# Altium integrated library pca63557.IntLib: 53 symbols
Pins are listed as number, name and electrical type; pins without a type are passive.

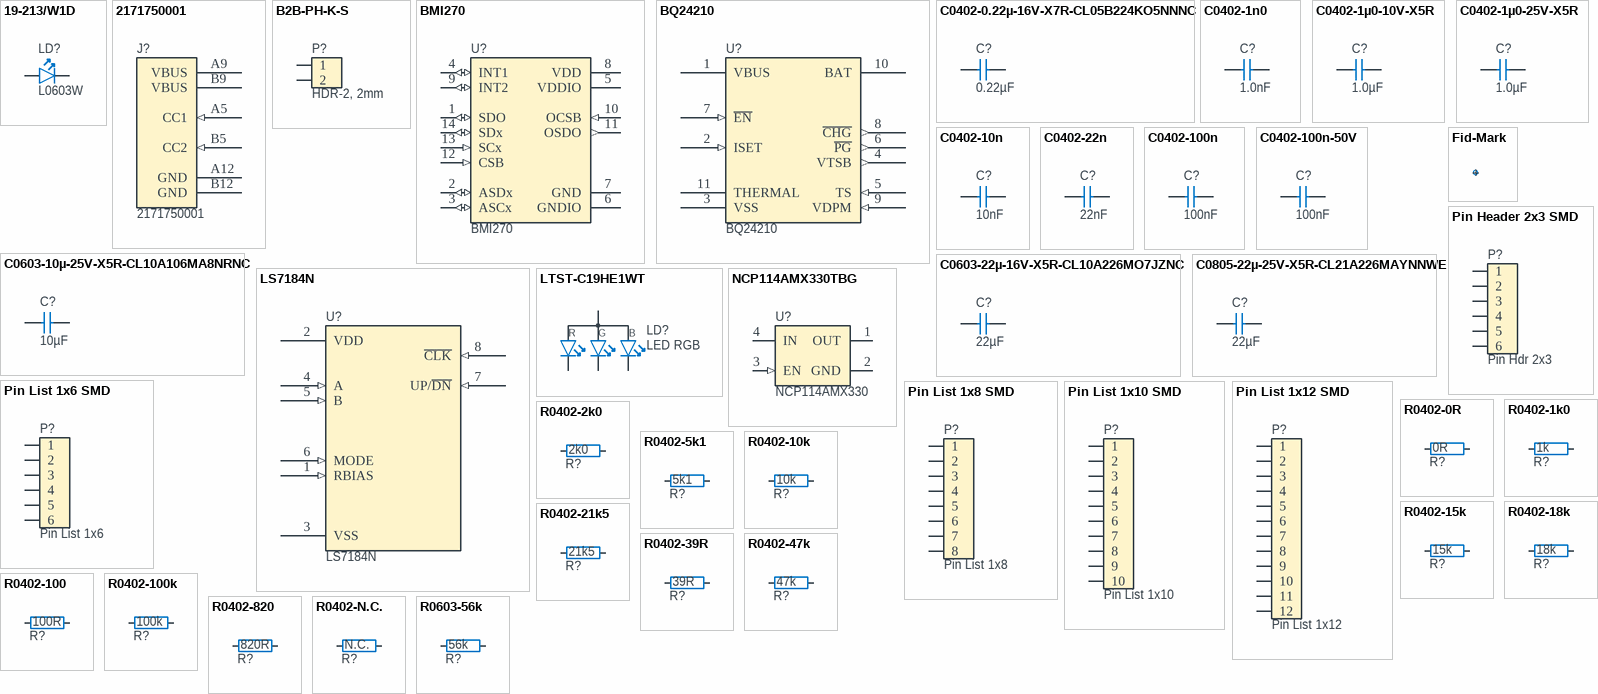
[diagram p0: symbols 19-213/W1D to R0603-56k]

## 19-213/W1D
designator LD?, comment L0603W
LED 0603, 19-213/W1D; Manufacturer: Everlight; Manufacturer Part Number: N.A.; Part number NEMS: 101400001; Component Status: Active; Pad Count: 2; Note: 45 mcd; Part Number: 19-213/W1D; PartId: 101400001; Component Class: Optoelectronics; Author: rsk; ComponentLink1URL: N.A.; ComponentLink1Description: Datasheet; ComponentLink2URL: N.A.; ComponentLink2Description: Supplier link; HelpURL: N.A.; Footprint Doc: 0603; LatestRevisionDate: 2009-05-18; Published: 2009-05-18; Value: L0603W; Supplier 1: N.A.; Supplier Part Number 1: N.A.; Supplier 2: N.A.; Supplier Part Number 2: N.A.; Artikkelnr Noca: N.A.; Part number IPS: N.A.; Part number Norautron: N.A.
footprint LED_0603
pins: 1 C, 2 A

## 2171750001
designator J?
CONN RCP USB2.0 C 6POS SMD RA; Manufacturer: Molex; Part number NEMS: 100500750; Component Status: Active; Pad Count: 10; Note: N.A.; Supplier 1: Digi-Key; Manufacturer Part Number: 2171750001; RoHS: No; Category: Connectors; Stock 1: 6900; Pricing 1: 1000=0.50970, 2000=0.45860, 5000=0.41720, 10000=0.40300, 25000=0.38470 (USD); Part Number: 2171750001; PartId: 100500750; Component Class: Connectors; Author: mam1; ComponentLink1URL: https://www.molex.com/webdocs/datasheets/pdf/en-us/2171750001_IO_CONNECTORS.pdf; ComponentLink1Description: Datasheet; ComponentLink2URL: https://www.digikey.no/no/products/detail/molex/2171750001/13913745?s=N4IgTCBcDa4IwHZEFYAM64gLoF8g; ComponentLink2Description: Supplier link; HelpURL: N.A.; Footprint Doc: 2171750001; LatestRevisionDate: 2022-06-20; Published: 2022-06-15; Value: 2171750001; Supplier Part Number 1: 900-2171750001CT-ND; Supplier 2: N.A.; Supplier Part Number 2: N.A.; Artikkelnr Noca: N.A.; Part number IPS: N.A.; Part number Norautron: N.A.
footprint USB-C
footprint 2171750001
pins: A5 CC1 (in), A9 VBUS (power), A12 GND (power), B5 CC2 (in), B9 VBUS (power), B12 GND (power)

## B2B-PH-K-S
designator P?, comment HDR-2, 2mm
JST-B2B-PH-K-S (LF)(SN)-HEADER-BIDE ENTRY, 2WAY; Manufacturer: JST Sales America Inc.; Part number NEMS: 100500025; Component Status: Active; Pad Count: 2; Note: JST, Header; Artikkelnr Noca: N.A.; Assembly: DNM; Part Number: B2B-PH-K-S; PartId: 100500025; Component Class: Connectors; Author: rsk; Manufacturer Part Number: B2B-PH-K-S (LF)(SN); ComponentLink1URL: N.A.; ComponentLink1Description: Datasheet; ComponentLink2URL: N.A.; ComponentLink2Description: Supplier link; HelpURL: http://www.farnell.com/datasheets/80560.pdf; Footprint Doc: B 2B-PH-K-S; LatestRevisionDate: 2010-02-02; Published: 2010-02-02; Value: HDR-2, 2mm; Supplier 1: Farnell; Supplier Part Number 1: 949-1856; Supplier 2: N.A.; Supplier Part Number 2: N.A.; Part number IPS: N.A.; Part number Norautron: N.A.
footprint B 2B-PH-K-S
pins: 1, 2

## BMI270
designator U?
6-axis, smart, low-power, inertial measurement unit; Manufacturer: Bosch; Part number NEMS: 101900620; Component Status: Active; Pad Count: 14; Note: N.A.; Part Number: BMI270; PartId: 101900620; Component Class: Misc_ICs; Author: rsk; Manufacturer Part Number: BMI270; ComponentLink1URL: https://www.bosch-sensortec.com/media/boschsensortec/downloads/datasheets/bst-bmi270-ds000.pdf; ComponentLink1Description: Datasheet; ComponentLink2URL: https://www.bosch-sensortec.com/products/motion-sensors/imus/bmi270.html; ComponentLink2Description: Supplier link; HelpURL: https://www.bosch-sensortec.com/media/boschsensortec/downloads/datasheets/bst-bmi270-ds000.pdf; Footprint Doc: LGA-14; LatestRevisionDate: 2021-08-03; Published: 2020-07-07; Value: BMI270; Supplier 1: Digi-Key; Supplier Part Number 1: 828-1091-1-ND; Supplier 2: Mouser; Supplier Part Number 2: 262-BMI270; Artikkelnr Noca: N.A.; Part number IPS: N.A.; Part number Norautron: N.A.
footprint BMI270
pins: 1 SDO (io), 2 ASDx (io), 3 ASCx (io), 4 INT1 (io), 5 VDDIO (power), 6 GNDIO (power), 7 GND (power), 8 VDD (power), 9 INT2 (io), 10 OCSB (in), 11 OSDO (out), 12 CSB (in), 13 SCx (in), 14 SDx (io)

## BQ24210
designator U?
IC BATT CHG LI-ION 1CELL 10WSON; Manufacturer: Texas Instruments; Component Status: Active; Pad Count: 11; Note: N.A.; Part Number: BQ24210; Component Class: Misc_ICs; Author: mam1; Manufacturer Part Number: BQ24210; ComponentLink1URL: https://www.ti.com/lit/ds/symlink/bq24210.pdf?HQS=dis-dk-null-digikeymode-dsf-pf-null-wwe&ts=1655977670459&ref_url=https%253A%252F%252Fwww.ti.com%252Fgeneral%252Fdocs%252Fsuppproductinfo.tsp%253FdistId%253D10%2526gotoUrl%253Dhttps%253A%252F%252Fwww.ti.com; ComponentLink1Description: Datasheet; ComponentLink2URL: https://www.digikey.no/no/products/detail/texas-instruments/BQ24210DQCR/2695894; ComponentLink2Description: Supplier link; HelpURL: N.A.; Footprint Doc: BQ24210; LatestRevisionDate: 2022-06-23; Published: 2022-06-21; Value: BQ24210; Supplier 1: Digi-Key; Supplier Part Number 1: 296-BQ24210DQCRCT-ND; Supplier 2: N.A.; Supplier Part Number 2: N.A.; Artikkelnr Noca: N.A.; Part number IPS: N.A.; Part number Norautron: N.A.
footprint BQ24210
pins: 1 VBUS (power), 2 ISET (in), 3 VSS (power), 4 VTSB (out), 5 TS (in), 6 ~{PG} (out), 7 ~{EN} (in), 8 ~{CHG} (out), 9 VDPM (in), 10 BAT (power), 11 THERMAL

## C0402-0.22µ-16V-X7R-CL05B224KO5NNNC
designator C?, comment 0.22µF
Capacitor, X7R, ±0.10%, 16V; Part Number: C0402-0.22µ-16V-X7R-CL05B224KO5NNNC; Manufacturer: Samsung Electro-Mechanics; Manufacturer Part Number: CL05B224KO5NNNC; Part number NEMS: 100200508; Component Status: Active; Pad Count: 2; Artikkelnr Noca: N.A.; Component Class: Capacitors; Author: mam1; ComponentLink1URL: https://media.digikey.com/pdf/Data%20Sheets/Samsung%20PDFs/CL05B224KO5NNNC_Spec.pdf; ComponentLink1Description: Datasheet; ComponentLink2URL: https://www.digikey.no/en/products/detail/samsung-electro-mechanics/CL05B224KO5NNNC/3886834; ComponentLink2Description: Supplier link; HelpURL: N.A.; Footprint Doc: 0402; LatestRevisionDate: 2022-06-20; Published: 2022-06-20; Value: 0.22µF; Note: 16V; Supplier 1: Digi-Key; Supplier Part Number 1: 1276-1176-1-ND; Supplier 2: N.A.; Supplier Part Number 2: N.A.; Part number IPS: N.A.; Part number Norautron: N.A.; PartId: 100200508
footprint CAPC1005X04L
pins: 1, 2

## C0402-1n0
designator C?, comment 1.0nF
Capacitor, X7R, ±10%; Part Number: C0402-1n0; Manufacturer: N.A.; Part number NEMS: 100200162; Component Status: Active; Pad Count: 2; Note: 50V; Artikkelnr Noca: 20039223; PartId: 100200162; Component Class: Capacitors; Author: rsk; Manufacturer Part Number: N.A.; ComponentLink1URL: N.A.; ComponentLink1Description: Datasheet; ComponentLink2URL: N.A.; ComponentLink2Description: Supplier link; HelpURL: N.A.; Footprint Doc: 0402; LatestRevisionDate: 2009-11-23; Published: 2009-05-08; Value: 1.0nF; Supplier 1: N.A.; Supplier Part Number 1: N.A.; Supplier 2: N.A.; Supplier Part Number 2: N.A.; Part number IPS: N.A.; Part number Norautron: N.A.
footprint CAPC1005X04L
pins: 1, 2

## C0402-1µ0-10V-X5R
designator C?, comment 1.0µF
Capacitor, Ceramic, X5R, ±10%, 10V; Part Number: C0402-1µ0-10V-X5R; Manufacturer: N.A.; Part number NEMS: 100200482; Component Status: Active; Pad Count: 2; PartId: 100200482; Component Class: Capacitors; Author: rubr; Manufacturer Part Number: N.A.; ComponentLink1URL: N.A.; ComponentLink1Description: Datasheet; ComponentLink2URL: N.A.; ComponentLink2Description: Supplier link; HelpURL: N.A.; Footprint Doc: 0402; LatestRevisionDate: 2021-07-22; Published: 2021-07-22; Value: 1.0µF; Note: 10V; Supplier 1: N.A.; Supplier Part Number 1: N.A.; Supplier 2: N.A.; Supplier Part Number 2: N.A.; Artikkelnr Noca: N.A.; Part number IPS: N.A.; Part number Norautron: N.A.
footprint CAPC1005X04L
pins: 1, 2

## C0402-1µ0-25V-X5R
designator C?, comment 1.0µF
Capacitor, Ceramic, X5R, ±10%, 25V; Part Number: C0402-1µ0-25V-X5R; Manufacturer: Murata; Manufacturer Part Number: GRM155R61E105KA12D; Part number NEMS: 100200453; Component Status: Active; Pad Count: 2; Artikkelnr Noca: N.A.; PartId: 100200453; Component Class: Capacitors; Author: rsk; ComponentLink1URL: https://search.murata.co.jp/Ceramy/image/img/A01X/G101/ENG/GRM155R61E105KA12-01.pdf; ComponentLink1Description: Datasheet; ComponentLink2URL: https://www.murata.com/en-global/products/productdetail?partno=GRM155R61E105KA12%23; ComponentLink2Description: Supplier link; HelpURL: N.A.; Footprint Doc: 0402; LatestRevisionDate: 2020-12-16; Published: 2020-12-16; Value: 1.0µF; Note: 25V; Supplier 1: Digi-Key; Supplier Part Number 1: 490-10017-1-ND; Supplier 2: Mouser; Supplier Part Number 2: 81-GRM155R61E105KA2D; Part number IPS: N.A.; Part number Norautron: N.A.
footprint CAPC1005X04L
pins: 1, 2

## C0402-10n
designator C?, comment 10nF
Capacitor, X7R, ±10%; Part Number: C0402-10n; Manufacturer: N.A.; Part number IPS: 00000007784; Part number NEMS: 100200173; Component Status: Active; Pad Count: 2; Note: 16V; Artikkelnr Noca: 20039166; PartId: 100200173; Component Class: Capacitors; Author: rsk; Manufacturer Part Number: N.A.; ComponentLink1URL: N.A.; ComponentLink1Description: Datasheet; ComponentLink2URL: N.A.; ComponentLink2Description: Supplier link; HelpURL: N.A.; Footprint Doc: 0402; LatestRevisionDate: 2009-11-23; Published: 2009-05-08; Value: 10nF; Supplier 1: N.A.; Supplier Part Number 1: N.A.; Supplier 2: N.A.; Supplier Part Number 2: N.A.; Part number Norautron: N.A.
footprint CAPC1005X04L
pins: 1, 2

## C0402-22n
designator C?, comment 22nF
Capacitor, X7R, ±10%; Part Number: C0402-22n; Manufacturer: N.A.; Part number NEMS: 100200177; Component Status: Active; Pad Count: 2; Note: 50V; Artikkelnr Noca: 20039316; PartId: 100200177; Component Class: Capacitors; Author: rsk; Manufacturer Part Number: N.A.; ComponentLink1URL: N.A.; ComponentLink1Description: Datasheet; ComponentLink2URL: N.A.; ComponentLink2Description: Supplier link; HelpURL: N.A.; Footprint Doc: 0402; LatestRevisionDate: 2009-05-08; Published: 2009-05-08; Value: 22nF; Supplier 1: N.A.; Supplier Part Number 1: N.A.; Supplier 2: N.A.; Supplier Part Number 2: N.A.; Part number IPS: N.A.; Part number Norautron: N.A.
footprint CAPC1005X04L
pins: 1, 2

## C0402-100n
designator C?, comment 100nF
Capacitor, X7R, ±10%; Part Number: C0402-100n; Manufacturer: N.A.; Part number IPS: 00000005296; Part number NEMS: 100200184; Component Status: Active; Pad Count: 2; Note: 16V; Artikkelnr Noca: 20039200; PartId: 100200184; Component Class: Capacitors; Author: rsk; Manufacturer Part Number: N.A.; ComponentLink1URL: N.A.; ComponentLink1Description: Datasheet; ComponentLink2URL: N.A.; ComponentLink2Description: Supplier link; HelpURL: N.A.; Footprint Doc: 0402; LatestRevisionDate: 2009-11-23; Published: 2009-05-08; Value: 100nF; Supplier 1: N.A.; Supplier Part Number 1: N.A.; Supplier 2: N.A.; Supplier Part Number 2: N.A.; Part number Norautron: N.A.
footprint CAPC1005X04L
pins: 1, 2

## C0402-100n-50V
designator C?, comment 100nF
Capacitor, X5R, ±10%, 50V; Part Number: C0402-100n-50V; Manufacturer: TDK Corporation; Manufacturer Part Number: C1005X5R1H104K050BB; Part number NEMS: 100200365; Component Status: Active; Pad Count: 2; Artikkelnr Noca: N.A.; PartId: 100200365; Component Class: Capacitors; Author: rsk; ComponentLink1URL: N.A.; ComponentLink1Description: Datasheet; ComponentLink2URL: N.A.; ComponentLink2Description: Supplier link; HelpURL: http://www.tdk.com/pdf/TDKMLCCCapRange.pdf; Footprint Doc: 0402; LatestRevisionDate: 2020-10-13; Published: 2015-04-10; Value: 100nF; Note: 50V; Supplier 1: Digi-Key; Supplier Part Number 1: 445-5942-1-ND; Supplier 2: N.A.; Supplier Part Number 2: N.A.; Part number IPS: N.A.; Part number Norautron: N.A.
footprint CAPC1005X04L
pins: 1, 2

## C0603-10µ-25V-X5R-CL10A106MA8NRNC
designator C?, comment 10µF
Capacitor, X5R, ±20%, 25V; Part Number: C0603-10µ-25V-X5R-CL10A106MA8NRNC; Manufacturer: Samsung Electro-Mechanics America; Manufacturer Part Number: CL10A106MA8NRNC; Part number IPS: 00000009948; Part number Norautron: N.A.; Part number NEMS: 100200354; Component Status: Active; Pad Count: 2; Artikkelnr Noca: 20039436; PartId: 100200354; Component Class: Capacitors; Author: rsk; ComponentLink1URL: N.A.; ComponentLink1Description: Datasheet; ComponentLink2URL: N.A.; ComponentLink2Description: Supplier link; HelpURL: http://www.samsungsem.com/kr/front/downloadcms.do?path=/kr/support/product-search/mlcc/__icsFiles/afieldfile/2014/11/05&fileName=S_CL10A106MA8NRNC.pdf; Footprint Doc: 0603; LatestRevisionDate: 2021-07-21; Published: 2015-04-10; Value: 10µF; Note: 25V; Supplier 1: Digi-Key; Supplier Part Number 1: 1276-1869-1-ND; Supplier 2: N.A.; Supplier Part Number 2: N.A.
footprint CAPC1608X06L
pins: 1, 2

## C0603-22µ-16V-X5R-CL10A226MO7JZNC
designator C?, comment 22µF
Capacitor, X5R, ±0.20%, 16V; Part Number: C0603-22µ-16V-X5R-CL10A226MO7JZNC; Manufacturer: Samsung Electro-Mechanics; Manufacturer Part Number: CL10A226MO7JZNC; Part number NEMS: 100200507; Component Status: Active; Pad Count: 2; Artikkelnr Noca: N.A.; Component Class: Capacitors; Author: mam1; ComponentLink1URL: https://media.digikey.com/pdf/Data%20Sheets/Samsung%20PDFs/CL10A226MO7JZNC_Spec.pdf; ComponentLink1Description: Datasheet; ComponentLink2URL: https://www.digikey.no/en/products/detail/samsung-electro-mechanics/CL10A226MO7JZNC/7320581; ComponentLink2Description: Supplier link; HelpURL: N.A.; Footprint Doc: 0603; LatestRevisionDate: 2022-06-20; Published: 2022-06-20; Value: 22µF; Note: 16V; Supplier 1: Digi-Key; Supplier Part Number 1: 1276-7076-1-ND; Supplier 2: N.A.; Supplier Part Number 2: N.A.; Part number IPS: N.A.; Part number Norautron: N.A.; PartId: 100200507
footprint CAPC1608X06L
pins: 1, 2

## C0805-22µ-25V-X5R-CL21A226MAYNNWE
designator C?, comment 22µF
Capacitor, X5R, ±0.20%, 25V; Part Number: C0805-22µ-25V-X5R-CL21A226MAYNNWE; Manufacturer: Samsung Electro-Mechanics; Manufacturer Part Number: CL21A226MAYNNWE; Component Status: Active; Pad Count: 2; Artikkelnr Noca: N.A.; Component Class: Capacitors; Author: mam1; ComponentLink1URL: https://media.digikey.com/pdf/Data%20Sheets/Samsung%20PDFs/CL21A226MAYNNWE_Spec.pdfc; ComponentLink1Description: Datasheet; ComponentLink2URL: https://www.digikey.no/no/products/detail/samsung-electro-mechanics/CL21A226MAYNNWE/16344162; ComponentLink2Description: Supplier link; HelpURL: N.A.; Footprint Doc: 0805; LatestRevisionDate: 2022-06-23; Published: 2022-06-23; Value: 22µF; Note: 25V; Supplier 1: Digi-Key; Supplier Part Number 1: 1276-CL21A226MAYNNWECT-ND; Supplier 2: N.A.; Supplier Part Number 2: N.A.; Part number IPS: N.A.; Part number Norautron: N.A.
footprint CAPC2012X11L
pins: 1, 2

## Fid-Mark
designator Fid?, comment Fiducial mark  (value not drawn)
Part Number: Fid-Mark; Manufacturer: N.A.; Part number NEMS: 100500073; Value: N.A.; Pad Count: 1; Component Status: Active; Manufacturer Part Number: N.A.; LatestRevisionDate: 2009-12-12; Published: 2009-12-12; Note: N.A.; Artikkelnr Noca: N.A.; Footprint Doc: Fiducial; PartId: 100500073; Component Class: Connectors; Author: rsk; ComponentLink1URL: N.A.; ComponentLink1Description: Datasheet; ComponentLink2URL: N.A.; ComponentLink2Description: Supplier link; HelpURL: N.A.; Supplier 1: N.A.; Supplier Part Number 1: N.A.; Supplier 2: N.A.; Supplier Part Number 2: N.A.; Part number IPS: N.A.; Part number Norautron: N.A.
footprint Fiducial

## LS7184N
designator U?
QUADRATURE CLOCK CONVERTER; Manufacturer: LSI/CSI; Manufacturer Part Number: LS7184N-S; Component Status: Active; Note: N.A.; Pad Count: 8; Part Number: LS7184N; Component Class: Misc_ICs; Author: mam1; ComponentLink1URL: https://lsicsi.com/datasheets/LS7183N_LS7184N.pdf; ComponentLink1Description: Datasheet; ComponentLink2URL: https://www.digikey.no/en/products/detail/lsi-csi/LS7184N-S/12760890; ComponentLink2Description: Supplier link; HelpURL: N.A.; LatestRevisionDate: 2022-06-21; Published: 2022-06-21; Value: LS7184N; Supplier 1: Digi-Key; Supplier Part Number 1: 2808-LS7184N-S-ND; Supplier 2: N.A.; Supplier Part Number 2: N.A.; Artikkelnr Noca: N.A.; Part number IPS: N.A.; Part number Norautron: N.A.; Footprint Doc: LS7184N
footprint LS7184N
pins: 1 RBIAS (in), 2 VDD (power), 3 VSS (power), 4 A (in), 5 B (in), 6 MODE (in), 7 UP/~{DN} (in), 8 ~{CLK} (in)

## LTST-C19HE1WT
designator LD?, comment LED RGB
RGB LED 1.60 mm x 1.60 mm SMD; Part Number: LTST-C19HE1WT; Manufacturer: Lite-On Inc; Part number IPS: 00000007798; Part number NEMS: 101400093; Component Status: Active; Pad Count: 4; Note: N.A.; PartId: 101400093; Component Class: Optoelectronics; Author: rsk; Manufacturer Part Number: LTST-C19HE1WT; ComponentLink1URL: N.A.; ComponentLink1Description: Datasheet; ComponentLink2URL: N.A.; ComponentLink2Description: Supplier link; HelpURL: http://optoelectronics.liteon.com/upload/download/DS22-2008-0044/S_110_LTST-C19HE1WT.pdf; Footprint Doc: LED_RGB_0606; LatestRevisionDate: 2016-09-23; Published: 2016-09-23; Value: LED RGB; Supplier 1: Digi-Key; Supplier Part Number 1: 160-2162-1-ND; Supplier 2: Mouser; Supplier Part Number 2: 859-LTST-C19HE1WT; Artikkelnr Noca: N.A.; Part number Norautron: N.A.
footprint LED_RGB_0606
pins: 1 C_RED, 2 C_GREEN, 3 C_BLUE, 4 A
text: R; G; B

## NCP114AMX330TBG
designator U?, comment NCP114AMX330
300 mA CMOS Low Dropout Regulator; Part Number: NCP114AMX330TBG; Manufacturer: ON Semiconductor; Part number NEMS: 101900525; Component Status: Active; Pad Count: 4; Note: N.A.; PartId: 101900525; Component Class: Misc_ICs; Author: rsk; Manufacturer Part Number: NCP114AMX330TBG; ComponentLink1URL: http://www.onsemi.com/pub/Collateral/NCP114-D.PDF; ComponentLink1Description: Datasheet; ComponentLink2URL: N.A.; ComponentLink2Description: Supplier link; HelpURL: N.A.; Footprint Doc: UDFN-4; LatestRevisionDate: 2018-04-10; Published: 2018-04-10; Value: NCP114AMX330; Supplier 1: Digi-Key; Supplier Part Number 1: NCP114AMX330TBGOSCT-ND; Supplier 2: N.A.; Supplier Part Number 2: N.A.; Artikkelnr Noca: N.A.; Part number IPS: N.A.; Part number Norautron: N.A.
footprint UDFN65P100X100X60_HS-5N
pins: 1 OUT (power), 2 GND (power), 3 EN (in), 4 IN (power), 5 EPAD (power) hidden to GND
1 alternate drawing of the same symbol

## Pin Header 2x3 SMD
designator P?, comment Pin Hdr 2x3
Pin Header 2x3, 2.54mm (100mil) SMD; Part Number: Pin Header 2x3 SMD; Manufacturer: W-CON; Manufacturer Part Number: 1125-1203S0M116R1; Part number IPS: 00000009966; Part number Norautron: N.A.; Part number NEMS: 100500242; Artikkelnr Noca: 55010007; Component Status: Active; Pad Count: 6; LatestRevisionDate: 2016-01-22; Published: 2016-01-22; Value: Pin Hdr 2x3; Note: SMD; Footprint Doc: HDR_2x3-SMD; PartId: 100500242; Component Class: Connectors; Author: rsk; ComponentLink1URL: N.A.; ComponentLink1Description: Datasheet; ComponentLink2URL: N.A.; ComponentLink2Description: Supplier link; HelpURL: \\hizz\pro\app9717\Datasheet\connectors\W-CON\1125-12XXXXMXXXXX.PDF; Supplier 1: Cabcon; Supplier Part Number 1: 1125-1203S0M116R1; Supplier 2: Samtec; Supplier Part Number 2: TSM-103-01-L-DV
footprint HDR_2x3-SMD
pins: 1, 2, 3, 4, 5, 6

## Pin List 1x6 SMD
designator P?, comment Pin List 1x6
Pin List 1x6, 2.54mm (100mil), SMD; Part Number: Pin List 1x6 SMD; Manufacturer: W-CON; Manufacturer Part Number: 1125-1106S0M116R2; Part number NEMS: 100500320; Note: N.A.; Artikkelnr Noca: 55010026; Component Status: Active; Pad Count: 6; LatestRevisionDate: 2016-03-29; Published: 2016-03-29; Value: Pin List 1x6; Footprint Doc: LIST_1x6_SMD; PartId: 100500320; Component Class: Connectors; Author: rsk; ComponentLink1URL: N.A.; ComponentLink1Description: Datasheet; ComponentLink2URL: N.A.; ComponentLink2Description: Supplier link; HelpURL: \\hizz\pro\app9717\Datasheet\connectors\W-CON\1125-11XXXXMXXXXX.pdf; Supplier 1: Cabcon; Supplier Part Number 1: 1125-1106S0M116R2; Supplier 2: Samtec; Supplier Part Number 2: TSM-106-01-L-SV-P-TR; Part number IPS: N.A.; Part number Norautron: N.A.
footprint LIST_1x6_SMD
pins: 1, 2, 3, 4, 5, 6

## Pin List 1x8 SMD
designator P?, comment Pin List 1x8
Pin List 1x8, 2.54mm (100mil), SMD; Part Number: Pin List 1x8 SMD; Manufacturer: W-CON; Manufacturer Part Number: 1125-1108S0M116R2; Part number IPS: 00000001701; Part number NEMS: 100500329; Note: N.A.; Artikkelnr Noca: 55010006; Component Status: Active; Pad Count: 8; LatestRevisionDate: 2016-01-22; Published: 2016-01-22; Value: Pin List 1x8; Footprint Doc: LIST_1x8_SMD; PartId: 100500329; Component Class: Connectors; Author: rsk; ComponentLink1URL: N.A.; ComponentLink1Description: Datasheet; ComponentLink2URL: N.A.; ComponentLink2Description: Supplier link; HelpURL: \\hizz\pro\app9717\Datasheet\connectors\W-CON\1125-11XXXXMXXXXX.pdf; Supplier 1: Cabcon; Supplier Part Number 1: 1125-1108S0M116R2; Supplier 2: Samtec; Supplier Part Number 2: TSM-108-01-L-SV-P-TR; Part number Norautron: N.A.
footprint LIST_1x8_SMD
pins: 1, 2, 3, 4, 5, 6, 7, 8
1 alternate drawing of the same symbol

## Pin List 1x10 SMD
designator P?, comment Pin List 1x10
Pin List 1x10, 2.54mm (100mil), SMD; Part Number: Pin List 1x10 SMD; Manufacturer: W-CON; Manufacturer Part Number: 1125-1110S0M116R2; Part number IPS: 00000004906; Part number NEMS: 100500337; Note: N.A.; Artikkelnr Noca: 55010028; Component Status: Active; Pad Count: 10; LatestRevisionDate: 2016-03-29; Published: 2016-03-29; Value: Pin List 1x10; Footprint Doc: LIST_1x10_SMD; PartId: 100500337; Component Class: Connectors; Author: rsk; ComponentLink1URL: N.A.; ComponentLink1Description: Datasheet; ComponentLink2URL: N.A.; ComponentLink2Description: Supplier link; HelpURL: \\hizz\pro\app9717\Datasheet\connectors\W-CON\1125-11XXXXMXXXXX.pdf; Supplier 1: Cabcon; Supplier Part Number 1: 1125-1110S0M116R2; Supplier 2: Samtec; Supplier Part Number 2: TSM-110-01-L-SV-P-TR; Part number Norautron: N.A.
footprint LIST_1x10_SMD
pins: 1, 2, 3, 4, 5, 6, 7, 8, 9, 10
1 alternate drawing of the same symbol

## Pin List 1x12 SMD
designator P?, comment Pin List 1x12
Pin List 1x12, 2.54mm (100mil), SMD; Part Number: Pin List 1x12 SMD; Manufacturer: W-CON; Manufacturer Part Number: 1125-1112S0M116R2; Part number IPS: 00000009969; Part number NEMS: 100500343; Component Status: Active; Pad Count: 12; Note: N.A.; Artikkelnr Noca: 55019293; PartId: 100500343; Component Class: Connectors; Author: rsk; ComponentLink1URL: N.A.; ComponentLink1Description: Datasheet; ComponentLink2URL: N.A.; ComponentLink2Description: Supplier link; HelpURL: N.A.; Footprint Doc: LIST_1x12_SMD; LatestRevisionDate: 2017-10-23; Published: 2015-11-10; Value: Pin List 1x12; Supplier 1: Cabcon; Supplier Part Number 1: 1125-1112S0M116R2; Supplier 2: Samtec; Supplier Part Number 2: TSM-112-01-L-SV-P-TR; Part number Norautron: N.A.
footprint LIST_1x12_SMD
pins: 1, 2, 3, 4, 5, 6, 7, 8, 9, 10, 11, 12

## R0402-0R
designator R?, comment 0R
Resistor, ±5%, 0.063W; Part Number: R0402-0R; Manufacturer: N.A.; Part number IPS: 00000007128; Part number NEMS: 100100109; Component Status: Active; Pad Count: 2; Note: Chip Res 5%; Artikkelnr Noca: 27049000; PartId: 100100109; Component Class: Resistors; Author: rsk; Manufacturer Part Number: N.A.; ComponentLink1URL: N.A.; ComponentLink1Description: Datasheet; ComponentLink2URL: N.A.; ComponentLink2Description: Supplier link; HelpURL: N.A.; Footprint Doc: 0402; LatestRevisionDate: 2009-11-23; Published: 2009-05-08; Value: 0R; Supplier 1: Farnell; Supplier Part Number 1: 146-9661; Supplier 2: N.A.; Supplier Part Number 2: N.A.; Part number Norautron: N.A.
footprint RESC1005X04L
pins: 1, 2

## R0402-1k0
designator R?, comment 1k
Resistor, ±1%, 0.063W; Part Number: R0402-1k0; Manufacturer: N.A.; Part number IPS: 00000002218; Part number NEMS: 100100171; Component Status: Active; Pad Count: 2; Note: Chip Res 1%; Artikkelnr Noca: 27049073; PartId: 100100171; Component Class: Resistors; Author: rsk; Manufacturer Part Number: N.A.; ComponentLink1URL: N.A.; ComponentLink1Description: Datasheet; ComponentLink2URL: N.A.; ComponentLink2Description: Supplier link; HelpURL: N.A.; Footprint Doc: 0402; LatestRevisionDate: 2009-11-23; Published: 2009-05-08; Value: 1k; Supplier 1: Farnell; Supplier Part Number 1: 173-8850; Supplier 2: N.A.; Supplier Part Number 2: N.A.; Part number Norautron: N.A.
footprint RESC1005X04L
pins: 1, 2

## R0402-2k0
designator R?, comment 2k0
Resistor, ±1%, 0.063W; Part Number: R0402-2k0; Manufacturer: N.A.; Part number NEMS: 100100181; Component Status: Active; Pad Count: 2; Note: Chip Res 1%; Artikkelnr Noca: 27049080; PartId: 100100181; Component Class: Resistors; Author: rsk; Manufacturer Part Number: N.A.; ComponentLink1URL: N.A.; ComponentLink1Description: Datasheet; ComponentLink2URL: N.A.; ComponentLink2Description: Supplier link; HelpURL: N.A.; Footprint Doc: 0402; LatestRevisionDate: 2016-06-02; Published: 2016-05-09; Value: 2k0; Supplier 1: N.A.; Supplier Part Number 1: N.A.; Supplier 2: N.A.; Supplier Part Number 2: N.A.; Part number IPS: N.A.; Part number Norautron: N.A.
footprint RESC1005X04L
pins: 1, 2

## R0402-5k1
designator R?, comment 5k1
RES SMD 5.1K OHM 1% 1/10W 0402; Part Number: R0402-5k1; Manufacturer: N.A.; Part number NEMS: 100100193; Component Status: Active; Pad Count: 2; Note: Chip Res 1%; PartId: 100100193; Component Class: Resistors; Author: rsk; Manufacturer Part Number: N.A.; ComponentLink1URL: N.A.; ComponentLink1Description: Datasheet; ComponentLink2URL: N.A.; ComponentLink2Description: Supplier link; HelpURL: N.A.; Footprint Doc: 0402; LatestRevisionDate: 2009-04-16; Published: 2009-04-16; Value: 5k1; Supplier 1: N.A.; Supplier Part Number 1: N.A.; Supplier 2: N.A.; Supplier Part Number 2: N.A.; Artikkelnr Noca: N.A.; Part number IPS: N.A.; Part number Norautron: N.A.
footprint RESC1005X04L
pins: 1, 2

## R0402-10k
designator R?, comment 10k
Resistor, ±1%, 0.063W; Part Number: R0402-10k; Manufacturer: N.A.; Part number IPS: 00000002093; Part number NEMS: 100100198; Component Status: Active; Pad Count: 2; Note: Chip Res 1%; Artikkelnr Noca: 27049097; PartId: 100100198; Component Class: Resistors; Author: rsk; Manufacturer Part Number: N.A.; ComponentLink1URL: N.A.; ComponentLink1Description: Datasheet; ComponentLink2URL: N.A.; ComponentLink2Description: Supplier link; HelpURL: N.A.; Footprint Doc: 0402; LatestRevisionDate: 2009-11-23; Published: 2009-05-08; Value: 10k; Supplier 1: Farnell; Supplier Part Number 1: 173-8864; Supplier 2: N.A.; Supplier Part Number 2: N.A.; Part number Norautron: N.A.
footprint RESC1005X04L
pins: 1, 2

## R0402-15k
designator R?, comment 15k
Resistor, ±1%, 0.063W; Part Number: R0402-15k; Manufacturer: N.A.; Part number IPS: 00000002098; Part number NEMS: 100100206; Component Status: Active; Pad Count: 2; Note: Chip Res 1%; Artikkelnr Noca: 27049101; PartId: 100100206; Component Class: Resistors; Author: rsk; Manufacturer Part Number: N.A.; ComponentLink1URL: N.A.; ComponentLink1Description: Datasheet; ComponentLink2URL: N.A.; ComponentLink2Description: Supplier link; HelpURL: N.A.; Footprint Doc: 0402; LatestRevisionDate: 2009-11-23; Published: 2009-05-08; Value: 15k; Supplier 1: Farnell; Supplier Part Number 1: 173-8866; Supplier 2: N.A.; Supplier Part Number 2: N.A.; Part number Norautron: N.A.
footprint RESC1005X04L
pins: 1, 2

## R0402-18k
designator R?, comment 18k
Resistor, ±1%, 0.063W; Part Number: R0402-18k; Manufacturer: N.A.; Part number IPS: 00000003300; Part number NEMS: 100100208; Component Status: Active; Pad Count: 2; Note: Chip Res 1%; Artikkelnr Noca: 27049103; PartId: 100100208; Component Class: Resistors; Author: rsk; Manufacturer Part Number: N.A.; ComponentLink1URL: N.A.; ComponentLink1Description: Datasheet; ComponentLink2URL: N.A.; ComponentLink2Description: Supplier link; HelpURL: N.A.; Footprint Doc: 0402; LatestRevisionDate: 2009-11-23; Published: 2009-05-08; Value: 18k; Supplier 1: Farnell; Supplier Part Number 1: 173-8867; Supplier 2: N.A.; Supplier Part Number 2: N.A.; Part number Norautron: N.A.
footprint RESC1005X04L
pins: 1, 2

## R0402-21k5
designator R?, comment 21k5
Resistor, ±1%, 0.063W; Part Number: R0402-21k5; Manufacturer: N.A.; Part number NEMS: 100100211; Component Status: Active; Pad Count: 2; Note: Chip Res 1%; PartId: 100100211; Component Class: Resistors; Author: rsk; Manufacturer Part Number: N.A.; ComponentLink1URL: N.A.; ComponentLink1Description: Datasheet; ComponentLink2URL: N.A.; ComponentLink2Description: Supplier link; HelpURL: N.A.; Footprint Doc: 0402; LatestRevisionDate: 2015-10-20; Published: 2015-10-20; Value: 21k5; Supplier 1: N.A.; Supplier Part Number 1: N.A.; Supplier 2: N.A.; Supplier Part Number 2: N.A.; Artikkelnr Noca: N.A.; Part number IPS: N.A.; Part number Norautron: N.A.
footprint RESC1005X04L
pins: 1, 2

## R0402-39R
designator R?, comment 39R
Resistor, ±1%, 0.063W; Part Number: R0402-39R; Manufacturer: N.A.; Part number IPS: 00000000821; Part number NEMS: 100100138; Component Status: Active; Pad Count: 2; Note: Chip Res 1%; Artikkelnr Noca: 27049039; PartId: 100100138; Component Class: Resistors; Author: rsk; Manufacturer Part Number: N.A.; ComponentLink1URL: N.A.; ComponentLink1Description: Datasheet; ComponentLink2URL: N.A.; ComponentLink2Description: Supplier link; HelpURL: N.A.; Footprint Doc: 0402; LatestRevisionDate: 2009-11-23; Published: 2009-05-08; Value: 39R; Supplier 1: Farnell; Supplier Part Number 1: 173-8831; Supplier 2: N.A.; Supplier Part Number 2: N.A.; Part number Norautron: N.A.
footprint RESC1005X04L
pins: 1, 2

## R0402-47k
designator R?, comment 47k
Resistor, ±1%, 0.063W; Part Number: R0402-47k; Manufacturer: N.A.; Part number NEMS: 100100224; Component Status: Active; Pad Count: 2; Note: Chip Res 1%; Artikkelnr Noca: 27049113; PartId: 100100224; Component Class: Resistors; Author: rsk; Manufacturer Part Number: N.A.; ComponentLink1URL: N.A.; ComponentLink1Description: Datasheet; ComponentLink2URL: N.A.; ComponentLink2Description: Supplier link; HelpURL: N.A.; Footprint Doc: 0402; LatestRevisionDate: 2009-11-23; Published: 2009-05-08; Value: 47k; Supplier 1: Farnell; Supplier Part Number 1: 146-9719; Supplier 2: N.A.; Supplier Part Number 2: N.A.; Part number IPS: N.A.; Part number Norautron: N.A.
footprint RESC1005X04L
pins: 1, 2

## R0402-100
designator R?, comment 100R
Resistor, ±1%, 0.063W; Part Number: R0402-100; Manufacturer: N.A.; Part number IPS: 00000002811; Part number NEMS: 100100148; Component Status: Active; Pad Count: 2; Note: Chip Res 1%; Artikkelnr Noca: 27049049; PartId: 100100148; Component Class: Resistors; Author: rsk; Manufacturer Part Number: N.A.; ComponentLink1URL: N.A.; ComponentLink1Description: Datasheet; ComponentLink2URL: N.A.; ComponentLink2Description: Supplier link; HelpURL: N.A.; Footprint Doc: 0402; LatestRevisionDate: 2009-11-23; Published: 2009-05-08; Value: 100R; Supplier 1: Farnell; Supplier Part Number 1: 173-8837; Supplier 2: N.A.; Supplier Part Number 2: N.A.; Part number Norautron: N.A.
footprint RESC1005X04L
pins: 1, 2

## R0402-100k
designator R?, comment 100k
Resistor, ±1%, 0.063W; Part Number: R0402-100k; Manufacturer: N.A.; Part number IPS: 00000003667; Part number NEMS: 100100239; Component Status: Active; Pad Count: 2; Note: Chip Res 1%; Artikkelnr Noca: 27049121; PartId: 100100239; Component Class: Resistors; Author: rsk; Manufacturer Part Number: N.A.; ComponentLink1URL: N.A.; ComponentLink1Description: Datasheet; ComponentLink2URL: N.A.; ComponentLink2Description: Supplier link; HelpURL: N.A.; Footprint Doc: 0402; LatestRevisionDate: 2009-11-23; Published: 2009-05-08; Value: 100k; Supplier 1: Farnell; Supplier Part Number 1: 173-8877; Supplier 2: N.A.; Supplier Part Number 2: N.A.; Part number Norautron: N.A.
footprint RESC1005X04L
pins: 1, 2

## R0402-820
designator R?, comment 820R
Resistor, ±1%, 0.063W; Part Number: R0402-820; Manufacturer: N.A.; Part number NEMS: 100100168; Component Status: Active; Pad Count: 2; Note: Chip Res 1%; Artikkelnr Noca: 27049071; PartId: 100100168; Component Class: Resistors; Author: rsk; Manufacturer Part Number: N.A.; ComponentLink1URL: N.A.; ComponentLink1Description: Datasheet; ComponentLink2URL: N.A.; ComponentLink2Description: Supplier link; HelpURL: N.A.; Footprint Doc: 0402; LatestRevisionDate: 2009-11-23; Published: 2009-05-08; Value: 820R; Supplier 1: Farnell; Supplier Part Number 1: 173-8849; Supplier 2: N.A.; Supplier Part Number 2: N.A.; Part number IPS: N.A.; Part number Norautron: N.A.
footprint RESC1005X04L
pins: 1, 2

## R0402-N.C.
designator R?, comment N.C.
Not mounted; Part Number: R0402-N.C.; Manufacturer: N.A.; Part number NEMS: 100100281; Component Status: Active; Pad Count: 2; Note: Chip Res; Assembly: Not mounted; PartId: 100100281; Component Class: Resistors; Author: rsk; Manufacturer Part Number: N.A.; ComponentLink1URL: N.A.; ComponentLink1Description: Datasheet; ComponentLink2URL: N.A.; ComponentLink2Description: Supplier link; HelpURL: N.A.; Footprint Doc: 0402; LatestRevisionDate: 2009-05-08; Published: 2009-05-08; Value: N.C.; Supplier 1: N.A.; Supplier Part Number 1: N.A.; Supplier 2: N.A.; Supplier Part Number 2: N.A.; Artikkelnr Noca: N.A.; Part number IPS: N.A.; Part number Norautron: N.A.
footprint RESC1005X04L_NC
pins: 1, 2

## R0603-56k
designator R?, comment 56k
Resistor, ±1%, 0.06W; Part Number: R0603-56k; Manufacturer: N.A.; Part number NEMS: 100100344; Component Status: Active; Pad Count: 2; Note: Chip Res 1%; Artikkelnr Noca: 27069115; PartId: 100100344; Component Class: Resistors; Author: rsk; Manufacturer Part Number: N.A.; ComponentLink1URL: N.A.; ComponentLink1Description: Datasheet; ComponentLink2URL: N.A.; ComponentLink2Description: Supplier link; HelpURL: N.A.; Footprint Doc: 0603; LatestRevisionDate: 2011-08-16; Published: 2009-05-08; Value: 56k; Supplier 1: N.A.; Supplier Part Number 1: N.A.; Supplier 2: N.A.; Supplier Part Number 2: N.A.; Part number IPS: N.A.; Part number Norautron: N.A.
footprint RESC1608X06L
pins: 1, 2

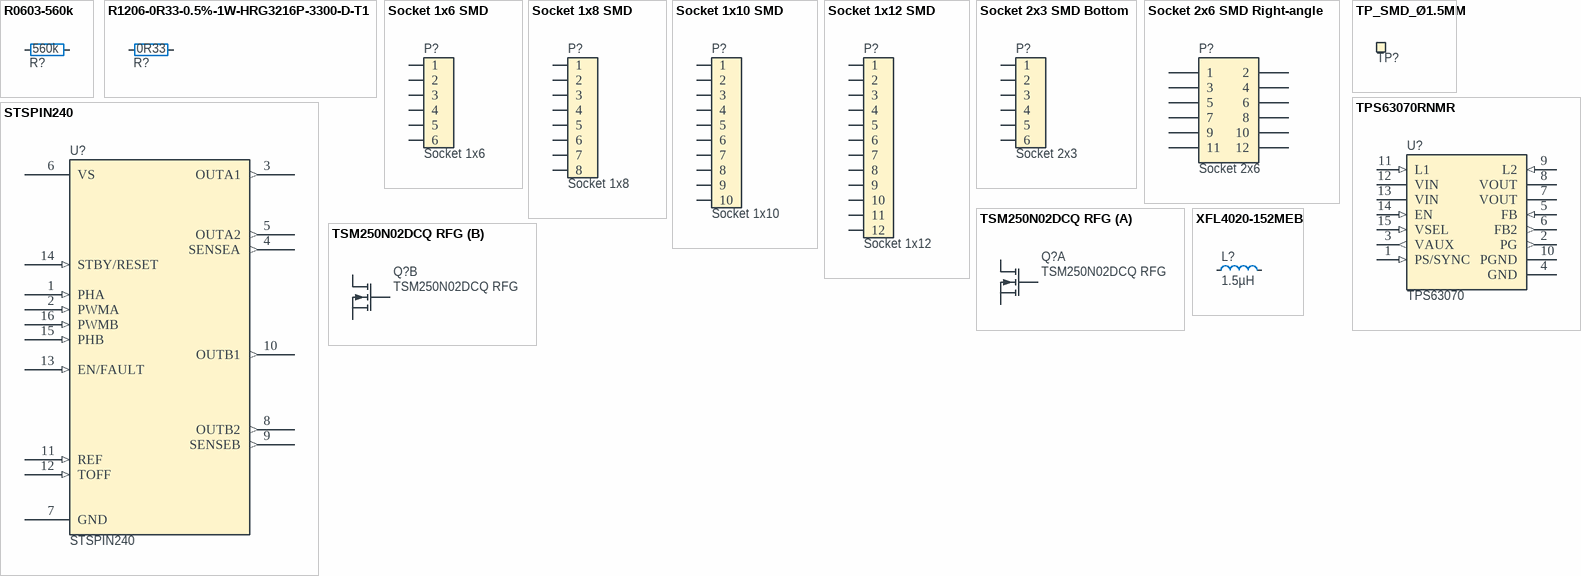
[diagram p1: symbols R0603-560k to XFL4020-152MEB]

## R0603-560k
designator R?, comment 560k
Resistor, ±1%, 0.06W; Part Number: R0603-560k; Manufacturer: N.A.; Part number NEMS: 100100357; Component Status: Active; Pad Count: 2; Note: Chip Res 1%; Artikkelnr Noca: 27069139; PartId: 100100357; Component Class: Resistors; Author: rsk; Manufacturer Part Number: N.A.; ComponentLink1URL: N.A.; ComponentLink1Description: Datasheet; ComponentLink2URL: N.A.; ComponentLink2Description: Supplier link; HelpURL: N.A.; Footprint Doc: 0603; LatestRevisionDate: 2011-08-16; Published: 2009-05-08; Value: 560k; Supplier 1: N.A.; Supplier Part Number 1: N.A.; Supplier 2: N.A.; Supplier Part Number 2: N.A.; Part number IPS: N.A.; Part number Norautron: N.A.
footprint RESC1608X06L
pins: 1, 2

## R1206-0R33-0.5%-1W-HRG3216P-3300-D-T1
designator R?, comment 0R33
330 Ohms ±0.5% 1W Chip Resistor 1206 (3216 Metric); Part Number: R1206-0R33-0.5%-1W-HRG3216P-3300-D-T1; Manufacturer: Susumu; Manufacturer Part Number: HRG3216P-3300-D-T1; Part number NEMS: 100100668; Component Status: Active; Pad Count: 2; Note: 0R33 0.5% 1W; Artikkelnr Noca: N.A.; Component Class: Resistors; Author: mam1; ComponentLink1URL: https://www.susumu.co.jp/common/pdf/n_catalog_partition24_en.pdf; ComponentLink1Description: Datasheet; ComponentLink2URL: https://www.digikey.no/en/products/detail/susumu/HRG3216P-3300-D-T1/5762512; ComponentLink2Description: Supplier link; HelpURL: N.A.; Footprint Doc: 1206; LatestRevisionDate: 2022-06-20; Published: 2022-06-20; Value: 0R33; Supplier 1: Digi-Key; Supplier Part Number 1: 408-1913-1-ND; Supplier 2: N.A.; Supplier Part Number 2: N.A.; Part number IPS: N.A.; Part number Norautron: N.A.; PartId: 100100668
footprint RESC3216X08N
pins: 1, 2

## Socket 1x6 SMD
designator P?, comment Socket 1x6
Socket 1x6, 2.54mm (100mil), SMD; Part Number: Socket 1x6 SMD; Manufacturer: W-CON; Manufacturer Part Number: 2171-106MS0CUNR1; Part number IPS: 00000009964; Part number Norautron: 26032370; Part number NEMS: 100500408; Note: N.A.; Artikkelnr Noca: 55030001; Component Status: Active; Pad Count: 6; LatestRevisionDate: 2017-10-23; Published: 2016-01-22; Value: Socket 1x6; Footprint Doc: SOCKET_1x6_SMD; PartId: 100500408; Component Class: Connectors; Author: rsk; ComponentLink1URL: N.A.; ComponentLink1Description: Datasheet; ComponentLink2URL: N.A.; ComponentLink2Description: Supplier link; HelpURL: N.A.; Supplier 1: Cabcon; Supplier Part Number 1: 2171-106MS0CUNR1; Supplier 2: Samtec; Supplier Part Number 2: SSM-106-F-SV-P-TR
footprint SOCKET_1x6_SMD
pins: 1, 2, 3, 4, 5, 6

## Socket 1x8 SMD
designator P?, comment Socket 1x8
Socket 1x8, 2.54mm (100mil), SMD; Part Number: Socket 1x8 SMD; Manufacturer: W-CON; Manufacturer Part Number: 2171-108MS0CUNR1; Part number IPS: 00000009963; Part number Norautron: 26032369; Part number NEMS: 100500412; Note: N.A.; Artikkelnr Noca: 55030002; Component Status: Active; Pad Count: 8; LatestRevisionDate: 2017-10-23; Published: 2016-01-22; Value: Socket 1x8; Footprint Doc: SOCKET_1x8_SMD; PartId: 100500412; Component Class: Connectors; Author: rsk; ComponentLink1URL: N.A.; ComponentLink1Description: Datasheet; ComponentLink2URL: N.A.; ComponentLink2Description: Supplier link; HelpURL: N.A.; Supplier 1: Cabcon; Supplier Part Number 1: 2171-108MS0CUNR1; Supplier 2: Samtec; Supplier Part Number 2: SSM-108-F-SV-P-TR
footprint SOCKET_1x8_SMD
pins: 1, 2, 3, 4, 5, 6, 7, 8
1 alternate drawing of the same symbol

## Socket 1x10 SMD
designator P?, comment Socket 1x10
Socket 1x10, 2.54mm (100mil), SMD; Part Number: Socket 1x10 SMD; Manufacturer: W-CON; Manufacturer Part Number: 2171-110MS0CUNR1; Part number IPS: 00000009965; Part number Norautron: 26032371; Part number NEMS: 100500416; Note: N.A.; Artikkelnr Noca: 55030004; Component Status: Active; Pad Count: 10; LatestRevisionDate: 2016-01-22; Published: 2016-01-22; Value: Socket 1x10; Footprint Doc: SOCKET_1x10_SMD; PartId: 100500416; Component Class: Connectors; Author: rsk; ComponentLink1URL: N.A.; ComponentLink1Description: Datasheet; ComponentLink2URL: N.A.; ComponentLink2Description: Supplier link; HelpURL: N.A.; Supplier 1: Cabcon; Supplier Part Number 1: 2171-110MS0CUNR1; Supplier 2: Samtec; Supplier Part Number 2: SSM-110-F-SV-P-TR
footprint SOCKET_1x10_SMD
pins: 1, 2, 3, 4, 5, 6, 7, 8, 9, 10
1 alternate drawing of the same symbol

## Socket 1x12 SMD
designator P?, comment Socket 1x12
Socket 1x12, 2.54mm (100mil), SMD; Part Number: Socket 1x12 SMD; Manufacturer: W-CON; Manufacturer Part Number: 2171-112MS0CUNR1; Part number NEMS: 100500420; Component Status: Active; Pad Count: 12; Note: N.A.; PartId: 100500420; Component Class: Connectors; Author: rsk; ComponentLink1URL: N.A.; ComponentLink1Description: Datasheet; ComponentLink2URL: N.A.; ComponentLink2Description: Supplier link; HelpURL: N.A.; Footprint Doc: SOCKET_1x12_SMD; LatestRevisionDate: 2017-10-23; Published: 2016-07-07; Value: Socket 1x12; Supplier 1: Cabcon; Supplier Part Number 1: 2171-112MS0CUNR1; Supplier 2: Samtec; Supplier Part Number 2: SSM-112-L-SV-P-TR; Artikkelnr Noca: N.A.; Part number IPS: N.A.; Part number Norautron: N.A.
footprint SOCKET_1x12_SMD
pins: 1, 2, 3, 4, 5, 6, 7, 8, 9, 10, 11, 12

## Socket 2x3 SMD Bottom
designator P?, comment Socket 2x3
Socket 2x3, 2.54mm (100mil), SMD; Part Number: Socket 2x3 SMD Bottom; Manufacturer: W-CON; Manufacturer Part Number: 2171-203MS0CUNR1; Part number IPS: 00000004907; Part number NEMS: 100500433; Note: N.A.; Artikkelnr Noca: 55030010; Component Status: Active; Pad Count: 6; LatestRevisionDate: 2016-03-29; Published: 2014-06-10; Value: Socket 2x3; Footprint Doc: SOCKET_2x3_SMD-2.54mm-bottom; PartId: 100500433; Component Class: Connectors; Author: rsk; ComponentLink1URL: N.A.; ComponentLink1Description: Datasheet; ComponentLink2URL: N.A.; ComponentLink2Description: Supplier link; HelpURL: \\hizz\pro\app9717\Datasheet\connectors\W-CON\2171-2XXMXXCUNXX.pdf; Supplier 1: Cabcon; Supplier Part Number 1: 2171-203MS0CUNR1; Supplier 2: Samtec; Supplier Part Number 2: SSM-103-F-DV-P-TR; Part number Norautron: N.A.
footprint SOCKET_2x3_SMD-2.54mm-bottom
pins: 1, 2, 3, 4, 5, 6

## Socket 2x6 SMD Right-angle
designator P?, comment Socket 2x6
12 Position Header Connector 0.100" (2.54mm) Through Hole, Right Angle Gold; Part Number: Socket 2x6 SMD Right-angle; Manufacturer: Sullins Connector Solutions; Manufacturer Part Number: PPPC062LJBN-RC; Component Status: Active; Pad Count: 12; Note: N.A.; Assembly: DNM; Component Class: Connectors; Author: mam1; ComponentLink1URL: https://drawings-pdf.s3.amazonaws.com/10494.pdf; ComponentLink1Description: Datasheet; ComponentLink2URL: https://www.digikey.no/no/products/detail/sullins-connector-solutions/PPPC062LJBN-RC/776017; ComponentLink2Description: Supplier link; HelpURL: N.A.; Footprint Doc: SOCKET_2x6_TH_ANG_2.54; LatestRevisionDate: 2022-06-21; Published: 2022-06-21; Value: Socket 2x6; Supplier 1: Digi-Key; Supplier Part Number 1: S5559-ND; Supplier 2: N.A.; Supplier Part Number 2: N.A.; Artikkelnr Noca: N.A.; Part number IPS: N.A.; Part number Norautron: N.A.
footprint SOCKET_2x6_TH_ANG_2.54
pins: 1, 2, 3, 4, 5, 6, 7, 8, 9, 10, 11, 12

## STSPIN240
designator U?
LOW VOLTAGE DUAL BRUSH DC MOTOR; Manufacturer: STMicroelectronics; Part number NEMS: 101900705; Component Status: Active; Pad Count: 17; Note: N.A.; Supplier 1: Digi-Key; Manufacturer Part Number: STSPIN240; ComponentLink1URL: https://www.st.com/content/ccc/resource/technical/document/datasheet/group3/2f/ef/09/12/89/cd/41/c8/DM00293532/files/DM00293532.pdf/jcr:content/translations/en.DM00293532.pdf; ComponentLink1Description: Datasheet; ComponentLink2URL: https://www.digikey.no/no/products/detail/stmicroelectronics/STSPIN240/6137576?s=N4IgTCBcDaIM4Bc4AcCWA7MAWADCAugL5A; ComponentLink2Description: Supplier link; Supplier Part Number 1: 497-16604-1-ND; Part Number: STSPIN240; PartId: 101900705; Component Class: Misc_ICs; Author: mam1; HelpURL: N.A.; Footprint Doc: STSPIN240; LatestRevisionDate: 2022-06-20; Published: 2022-06-15; Value: STSPIN240; Supplier 2: N.A.; Supplier Part Number 2: N.A.; Artikkelnr Noca: N.A.; Part number IPS: N.A.; Part number Norautron: N.A.
footprint STSPIN240
pins: 1 PHA (in), 2 PWMA (in), 3 OUTA1 (out), 4 SENSEA (out), 5 OUTA2 (out), 6 VS (power), 7 GND (power), 8 OUTB2 (out), 9 SENSEB (out), 10 OUTB1 (out), 11 REF (in), 12 TOFF (in), 13 EN/FAULT (in), 14 STBY/RESET (in), 15 PHB (in), 16 PWMB (in)

## TP_SMD_Ø1.5MM
designator TP?, comment Ø1.5mm,SMD  (value not drawn)  (no BOM)
1.5mm circular SMD testpad; Part Number: TP_SMD_Ø1.5MM; Manufacturer: Nordic Semiconductor; Manufacturer Part Number: N.A.; Part number NEMS: 100500477; Component Status: Active; Pad Count: 1; PartId: 100500477; Component Class: Connectors; Author: rsk; ComponentLink1URL: N.A.; ComponentLink1Description: Datasheet; ComponentLink2URL: N.A.; ComponentLink2Description: Supplier link; HelpURL: N.A.; Footprint Doc: TP_SMD_Ø1.5mm; LatestRevisionDate: 2021-03-05; Published: 2016-06-02; Value: Ø1.5mm,SMD; Note: N.A.; Supplier 1: N.A.; Supplier Part Number 1: N.A.; Supplier 2: N.A.; Supplier Part Number 2: N.A.; Artikkelnr Noca: N.A.; Part number IPS: N.A.; Part number Norautron: N.A.
footprint TP_SMD_D1.5mm
pins: 1

## TPS63070RNMR
designator U?, comment TPS63070
2V to 16V Adjustable Buck-Boost Converter With 3.6-A Switch Current; Part Number: TPS63070RNMR; Manufacturer: Texas Instruments; Part number NEMS: 101900487; Component Status: Active; Pad Count: 15; Note: N.A.; PartId: 101900487; Component Class: Misc_ICs; Author: rsk; Manufacturer Part Number: TPS63070RNMR; ComponentLink1URL: N.A.; ComponentLink1Description: Datasheet; ComponentLink2URL: N.A.; ComponentLink2Description: Supplier link; HelpURL: http://www.ti.com/lit/ds/symlink/tps63070.pdf; Footprint Doc: VQFN-HR-15; LatestRevisionDate: 2017-06-10; Published: 2017-06-10; Value: TPS63070; Supplier 1: Digi-Key; Supplier Part Number 1: 296-44874-1-ND; Supplier 2: Mouser; Supplier Part Number 2: 595-TPS63070RNMR; Artikkelnr Noca: N.A.; Part number IPS: N.A.; Part number Norautron: N.A.
footprint VQFN-HR50P250X300X100-15N
pins: 1 PS/SYNC (in), 2 PG (out), 3 VAUX (out), 4 GND (power), 5 FB (in), 6 FB2 (out), 7 VOUT (power), 8 VOUT (power), 9 L2 (in), 10 PGND (power), 11 L1 (in), 12 VIN (power), 13 VIN (power), 14 EN (in), 15 VSEL (in)

## TSM250N02DCQ RFG
designator Q?
Dual N Ch MOFET, 5.8A, 55mOhm max, 620mW; Manufacturer: Taiwan Semiconductor; Part number IPS: 00000001703; Part number NEMS: 101300161; Component Status: Active; Pad Count: 6; Note: N.A.; Part Number: TSM250N02DCQ RFG; PartId: 101300161; Component Class: Semiconductors; Author: rsk; Manufacturer Part Number: TSM250N02DCQ RFG; ComponentLink1URL: https://www.taiwansemi.com/products/datasheet/TSM250N02D_B15.pdf; ComponentLink1Description: Datasheet; ComponentLink2URL: N.A.; ComponentLink2Description: Supplier link; HelpURL: https://www.taiwansemi.com/products/datasheet/TSM250N02D_B15.pdf; Footprint Doc: VDFN-6; LatestRevisionDate: 2018-10-31; Published: 2018-10-31; Value: TSM250N02DCQ RFG; Supplier 1: Digi-Key; Supplier Part Number 1: TSM250N02DCQRFGCT-ND; Supplier 2: N.A.; Supplier Part Number 2: N.A.; Artikkelnr Noca: N.A.; Part number Norautron: N.A.
footprint DFN65P200X200X80_HS-6N
part A pins: 1 S1, 2 G1, 6 D1
part B pins: 3 D2, 4 S2, 5 G2

## XFL4020-152MEB
designator L?, comment 1.5µH
Fixed Inductors XFL4020 Low DCR Ind 1.5 uH 20 % 9.1 A; Part Number: XFL4020-152MEB; Manufacturer: Coilcraft; Part number NEMS: 100300153; Component Status: Active; Pad Count: 2; Note: N.A.; PartId: 100300153; Component Class: Inductors; Author: rsk; Manufacturer Part Number: XFL4020-152MEB; ComponentLink1URL: N.A.; ComponentLink1Description: Datasheet; ComponentLink2URL: N.A.; ComponentLink2Description: Supplier link; HelpURL: http://www.mouser.com/ds/2/597/xfl4020-270756.pdf; Footprint Doc: XFL4020-152MEB; LatestRevisionDate: 2015-09-25; Published: 2015-09-25; Value: 1.5µH; Supplier 1: Mouser; Supplier Part Number 1: 994-XFL4020-152MEB; Supplier 2: N.A.; Supplier Part Number 2: N.A.; Artikkelnr Noca: N.A.; Part number IPS: N.A.; Part number Norautron: N.A.
footprint XFL4020-152MEB
pins: 1, 2